# Altium schematic symbol library Diode.SchLib: 1 symbol
Pins are listed as number, name and electrical type; pins without a type are passive.

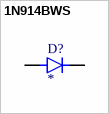
[diagram p0: symbol 1N914BWS]

## 1N914BWS
designator D?
SOD-323F, 100V, 0.15A, Switching Diode & Array; MP: 1N914BWS RR; MF: Taiwan Semiconductor; Value: *; Check_prices: https://www.snapeda.com/parts/1N914BWS%20RR/Taiwan+Semiconductor/view-part/?ref=eda; Availability: In Stock; Price: None; Package: SOD-323F Taiwan Semiconductor; SnapEDA_Link: https://www.snapeda.com/parts/1N914BWS%20RR/Taiwan+Semiconductor/view-part/?ref=snap; Purchase-URL: https://pricing.snapeda.com/search/part/1N914BWS RR/?ref=eda
footprint DIO_1N914BWS_RR
pins: A, C K